# Altium schematic symbol library XC6210B502PR-G.SCHLIB: 1 symbol
Pins are listed as number, name and electrical type; pins without a type are passive.

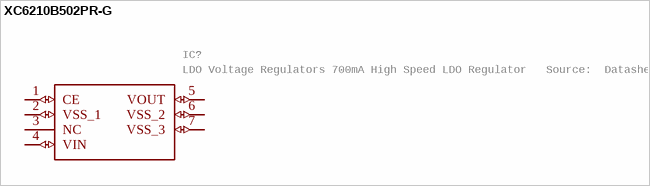
[diagram p0: symbol XC6210B502PR-G]

## XC6210B502PR-G
designator IC?, comment LDO Voltage Regulators 700mA High Speed LDO Regulator   Source:  Datasheet
Manufacturer_Name: Torex; GateName_1: G$1; SymbolName_1: XC6210B502PR-G; LibraryName: XC6210B502PR-G; DeviceSetName: XC6210B502PR-G; Package: XC6210B502PRG; Mouser_Part_Number: 865-XC6210B502PR-G; Mouser_Price-Stock: https://www.mouser.co.uk/ProductDetail/Torex-Semiconductor/XC6210B502PR-G?qs=AsjdqWjXhJ8XXo5wZ7cEHQ%3D%3D; Manufacturer_Part_Number: XC6210B502PR-G; Description: LDO Voltage Regulators 700mA High Speed LDO Regulator; Height: 1.6mm
footprint XC6210B502PRG
pins: 1 CE (io), 2 VSS_1 (io), 3 NC, 4 VIN (io), 5 VOUT (io), 6 VSS_2 (io), 7 VSS_3 (io)